# Altium schematic symbol library 418127160904.SchLib: 1 symbol
Pins are listed as number, name and electrical type; pins without a type are passive.

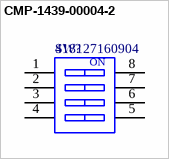
[diagram p0: symbol CMP-1439-00004-2]

## CMP-1439-00004-2
designator SW?, comment 418127160904
NexarPartId: 57114393; Voltage Rating (DC): 24V; Throw Configuration: SPST; Number of Positions: 4; Pitch: 2.54mm; Current Rating: 25mA; Insulation Resistance: 100MΩ; Mechanical Life: 5kcycles; Body Material: Polyphenylene; Electrical Life: 2kcycles; Washable: Yes; Termination: PC Pin; Contact Plating: Gold; Length: 11.1mm; Min Operating Temperature: -40°C; Mount: Through Hole; Voltage Rating: 24V; Max Operating Temperature: 85°C; RoHS: Compliant
footprint 418127160904 (2.54 mm small compact THT flat actuator with top tape, 4p)
pins: 1, 2, 3, 4, 5, 6, 7, 8
text: ON